# EAGLE library part IC-CH340G (library - Jins eagle lbr)
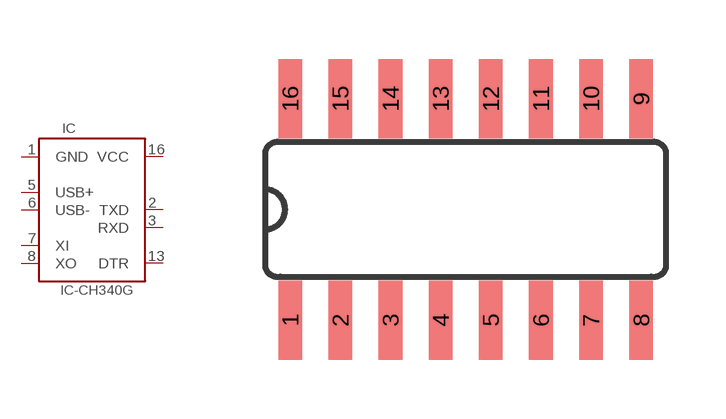
[diagram p7: symbol with the pads of SOP-16; footprint SOP-16]

Designator prefix IC

## IC-CH340G-USB-TTL  [SOP-16]
1  GND
2  TXD
3  RXD
5  USB+
6  USB-
7  XI
8  XO
13  DTR
16  VCC

## Footprint SOP-16 (pad centres in mm)
smd 0.6 x 2: 1 -3.945,-2.76; 2 -2.675,-2.76; 3 -1.405,-2.76; 4 -0.135,-2.76; 5 1.135,-2.76; 6 2.405,-2.76; 7 3.675,-2.76; 8 4.945,-2.76; 9 4.945,2.84; 10 3.675,2.84; 11 2.405,2.84; 12 1.135,2.84; 13 -0.135,2.84; 14 -1.405,2.84; 15 -2.675,2.84; 16 -3.945,2.84